# EAGLE library part MOSFET-NCHANNEL_DUAL (library Skoba)
Dual N-Channel 30-V (D-S) MOSFET FDMA1024NZ TRANS-09516 http://www.vishay.com/docs/71053/71053.pdf
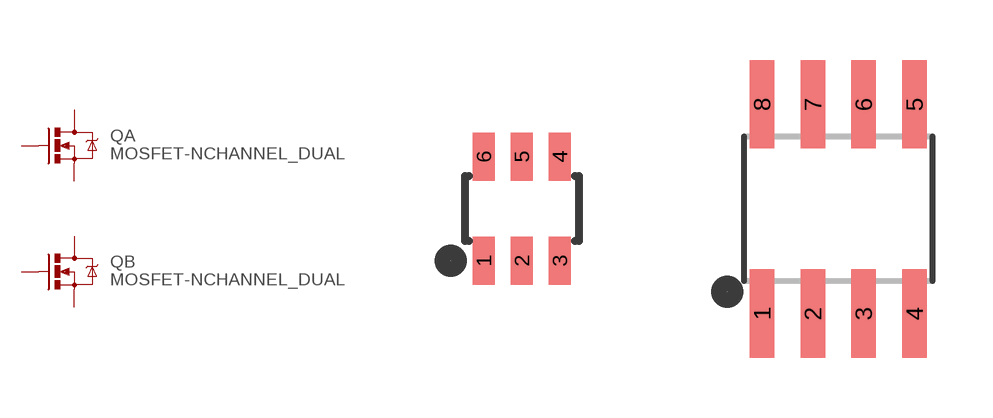
[diagram p10: symbol with the pads of SOT23-6; footprints SOT23-6, SO08]

Designator prefix Q; gates A=MOSFET-NCHANNEL B=MOSFET-NCHANNEL

## MOSFET-NCHANNEL_DUALSOT23-6  [SOT23-6]
1  A:G  pas
2  B:S  pas
3  B:G  pas
4  B:D  pas
5  A:S  pas
6  A:D  pas

## MOSFET-NCHANNEL_DUALSO8  [SO08]
1  A:S  pas
2  A:G  pas
3  B:S  pas
4  B:G  pas
5  B:D  pas
6  B:D  pas
7  A:D  pas
8  A:D  pas

## MOSFET-NCHANNEL_DUALSO08-JOINED  [SO08-JOINED-2]
1  A:S  pas
2  A:G  pas
3  B:S  pas
4  B:G  pas
56  B:D  pas
78  A:D  pas

## Footprint SOT23-6 (pad centres in mm)
smd 0.55 x 1.2: 1 -0.95,-1.3; 2 0,-1.3; 3 0.95,-1.3; 4 0.95,1.3; 5 0,1.3; 6 -0.95,1.3

## Footprint SO08 (pad centres in mm)
Small Outline Package Fits JEDEC packages (narrow SOIC-8)
smd 0.61 x 2.21: 1 -1.905,-2.616; 2 -0.635,-2.616; 3 0.635,-2.616; 4 1.905,-2.616; 5 1.905,2.616; 6 0.635,2.616; 7 -0.635,2.616; 8 -1.905,2.616

## Footprint SO08-JOINED-2 (pad centres in mm)
smd 0.61 x 2.21: 1 -1.905,-2.616; 2 -0.635,-2.616; 3 0.635,-2.616; 4 1.905,-2.616
smd 1.8 x 2.22: 56 1.32,2.61; 78 -1.32,2.61